# Altium schematic symbol library IS42S16160D-7BL.Schlib: 1 symbol
Pins are listed as number, name and electrical type; pins without a type are passive.

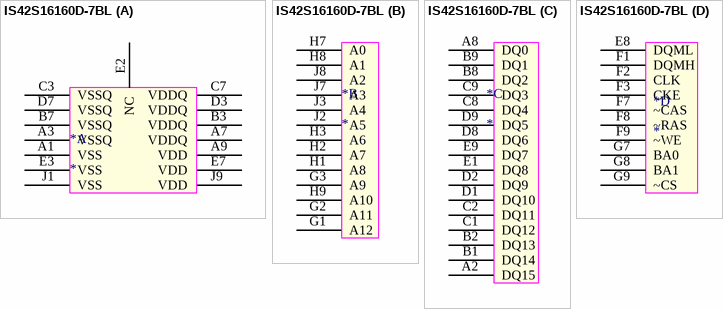
[diagram p0: symbol IS42S16160D-7BL]

## IS42S16160D-7BL
designator *
part A pins: A1 VSS, A3 VSSQ, A7 VDDQ, A9 VDD, B3 VDDQ, B7 VSSQ, C3 VSSQ, C7 VDDQ, D3 VDDQ, D7 VSSQ, E2 NC, E3 VSS, E7 VDD, J1 VSS, J9 VDD
part B pins: G1 A12, G2 A11, G3 A9, H1 A8, H2 A7, H3 A6, H7 A0, H8 A1, H9 A10, J2 A5, J3 A4, J7 A3, J8 A2
part C pins: A2 DQ15, A8 DQ0, B1 DQ14, B2 DQ13, B8 DQ2, B9 DQ1, C1 DQ12, C2 DQ11, C8 DQ4, C9 DQ3, D1 DQ10, D2 DQ9, D8 DQ6, D9 DQ5, E1 DQ8, E9 DQ7
part D pins: E8 DQML, F1 DQMH, F2 CLK, F3 CKE, F7 ~CAS, F8 ~RAS, F9 ~WE, G7 BA0, G8 BA1, G9 ~CS